# Altium schematic symbol library 2338792-1.SchLib: 1 symbol
Pins are listed as number, name and electrical type; pins without a type are passive.

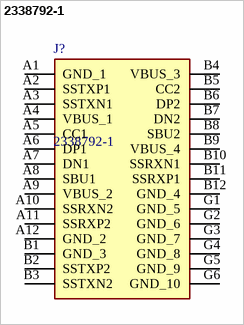
[diagram p0: symbol 2338792-1]

## 2338792-1
designator J?
USB Connectors, C, 3.1 Gen 1, Standard Profile, Receptacle, 1 Port, Top, Right Angle, Reel, Through Hole - Solder / Surface Mount, Cable-to-Board; Manufacturer_Name: TE Connectivity; Geometry.Height: 3.55mm; Mouser Part Number: 571-2338792-1; Mouser Price/Stock: https://www.mouser.co.uk/ProductDetail/TE-Connectivity/2338792-1?qs=P1JMDcb91o48A7J0Lklrxw%3D%3D; Manufacturer_Part_Number: 2338792-1; Datasheet Link: https://www.te.com/commerce/DocumentDelivery/DDEController?Action=srchrtrv&DocNm=2338792&DocType=Customer+Drawing&DocLang=English&DocFormat=pdf&PartCntxt=2338792-1.html
footprint 23387921
pins: A1 GND_1, A2 SSTXP1, A3 SSTXN1, A4 VBUS_1, A5 CC1, A6 DP1, A7 DN1, A8 SBU1, A9 VBUS_2, A10 SSRXN2, A11 SSRXP2, A12 GND_2, B1 GND_3, B2 SSTXP2, B3 SSTXN2, B4 VBUS_3, B5 CC2, B6 DP2, B7 DN2, B8 SBU2, B9 VBUS_4, B10 SSRXN1, B11 SSRXP1, B12 GND_4, G1 GND_5, G2 GND_6, G3 GND_7, G4 GND_8, G5 GND_9, G6 GND_10